# EAGLE library part DF11-30-2DSA (library con-hirose-df11)
HEADER
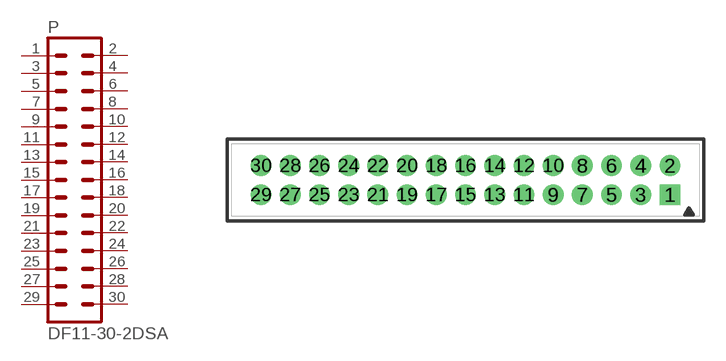
[diagram p12: symbol with the pads of DF11-30DP-2DSA; footprint DF11-30DP-2DSA]

Designator prefix P

## DF11-30-2DSA  [DF11-30DP-2DSA]
1  1  pas
2  2  pas
3  3  pas
4  4  pas
5  5  pas
6  6  pas
7  7  pas
8  8  pas
9  9  pas
10  10  pas
11  11  pas
12  12  pas
13  13  pas
14  14  pas
15  15  pas
16  16  pas
17  17  pas
18  18  pas
19  19  pas
20  20  pas
21  21  pas
22  22  pas
23  23  pas
24  24  pas
25  25  pas
26  26  pas
27  27  pas
28  28  pas
29  29  pas
30  30  pas

## Footprint DF11-30DP-2DSA (pad centres in mm)
HEADER
drill 0.914 square: 1 14,-1
drill 0.914: 2 14,1; 3 12,-1; 4 12,1; 5 10,-1; 6 10,1; 7 8,-1; 8 8,1; 9 6,-1; 10 6,1; 11 4,-1; 12 4,1; 13 2,-1; 14 2,1; 15 0,-1; 16 0,1; 17 -2,-1; 18 -2,1; 19 -4,-1; 20 -4,1; 21 -6,-1; 22 -6,1; 23 -8,-1; 24 -8,1; 25 -10,-1; 26 -10,1; 27 -12,-1; 28 -12,1; 29 -14,-1; 30 -14,1